# Altium footprint library TO254P1435X464-4N.PcbLib: 2 footprints
Each footprint in its own frame and in the unit in brackets; x right, y up, seen from the top. Pads: shape width x height; smd on the part's side, far side on the other; paste and mask are expansions set on the pad; w line width, h text height; cw(c..) or ccw(c..) is an arc to the next point about the centre after c.
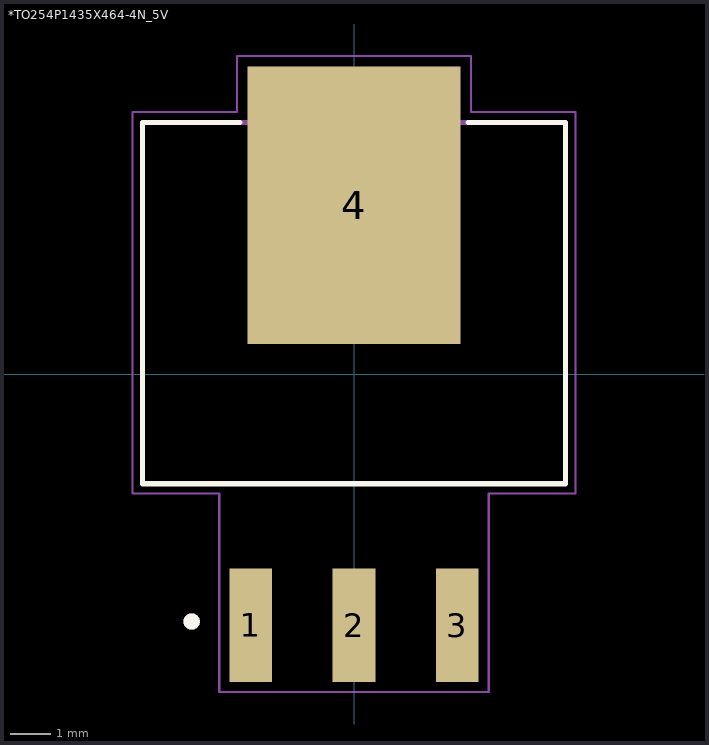
[diagram p0: the footprints below, top view; thin cyan lines are the x and y axes]

## *TO254P1435X464-4N_5V [mm]
pads (4):
  rect 1.05x2.79 smd: 1(-2.54,-6.19) 2(0,-6.19) 3(2.54,-6.19)
  rect 5.25x6.84 smd: 4(0,4.16)
Top Overlay:
  circle w0.2: c-4,-6.1 r0.1
  lines w0.127: -2.805,6.2 -5.21,6.195 -5.21,-2.705 5.21,-2.705 5.21,6.195 2.805,6.2
Mechanical 4:
  circle w0.2: c-4,-6.1 r0.1
  circle w0.2: c-4,-6.1 r0.1
  lines w0.127: -5.21,-2.7 -5.21,6.2 ; -5.21,-2.7 5.21,-2.7 ; -5.21,-2.7 -5.21,6.2 ; -5.21,-2.7 5.21,-2.7 ; -5.21,6.2 5.21,6.2 ; -5.21,6.2 5.21,6.2 ; 5.21,-2.7 5.21,6.2 ; 5.21,-2.7 5.21,6.2
Mechanical 16:
  lines w0.05: -5.46,-2.95 -5.46,6.45 -2.88,6.45 -2.88,7.84 2.88,7.84 2.88,6.45 5.46,6.45 5.46,-2.95 3.32,-2.95 3.32,-7.84 -3.32,-7.84 -3.32,-2.95 -5.46,-2.95
3D body "TS3B.stp": height 4.8, standoff -0.05, extent -5.207,-6.032 5.207,6.099

## PCBComponent_1 [mm]